# Altium footprint library SIP5_2_MM.PcbLib: 1 footprints
Each footprint in its own frame and in the unit in brackets; x right, y up, seen from the top. Pads: shape width x height; smd on the part's side, far side on the other; paste and mask are expansions set on the pad; w line width, h text height; cw(c..) or ccw(c..) is an arc to the next point about the centre after c.
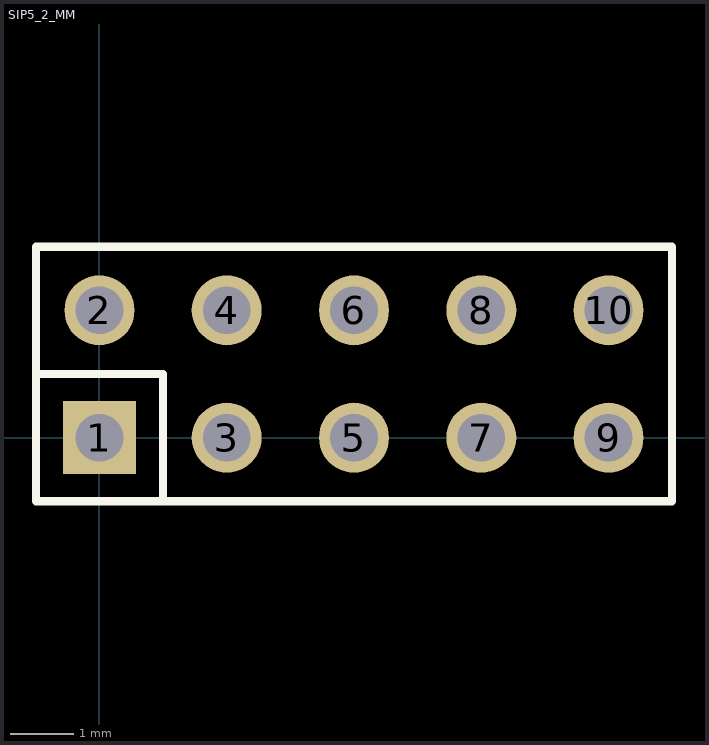
[diagram p0: the footprint, top view; thin cyan lines are the x and y axes]

## SIP5_2_MM [mm]
pads (10):
  rect 1.15x1.15 hole 0.75: 1(0,0)
  round 1.1 hole 0.75: 2(0,2) 3(2,0) 4(2,2) 5(4,0) 6(4,2) 7(6,0) 8(6,2) 9(8,0) 10(8,2)
Top Overlay:
  lines w0.127: 1,-1 1,1 -1,1 ; -1,1 -1,3 9,3 9,-1 -1,-1 -1,1
3D body: height 6, standoff -2.8, extent -1.009,-0.985 0.991,2.965
3D body: height 6, standoff -2.8, extent 0.991,-0.985 2.991,2.965
3D body: height 6, standoff -2.8, extent 2.991,-0.985 4.991,2.965
3D body: height 6, standoff -2.8, extent 4.991,-0.985 6.991,2.965
3D body: height 6, standoff -2.8, extent 6.991,-0.985 8.991,2.965